# Altium schematic symbol library Schlib1.SchLib: 1 symbol
Pins are listed as number, name and electrical type; pins without a type are passive.

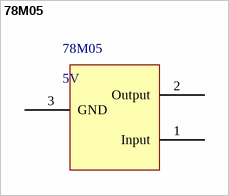
[diagram p0: symbol 78M05]

## 78M05
designator 78M05, comment 5V
footprint LM7805 (D-PAK, 3-Pads, Body 6.25x6.76mm (max), IPC Medium Density)
pins: 1 Input, 2 Output, 3 GND (power)